# Altium schematic symbol library SPEAKER.SchLib: 1 symbol
Pins are listed as number, name and electrical type; pins without a type are passive.

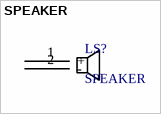
[diagram p0: symbol SPEAKER]

## SPEAKER
designator LS?
Speaker symbol
pins: 1 +, 2 -